# EAGLE library part NORDIC-BREAKOUT (library ble)
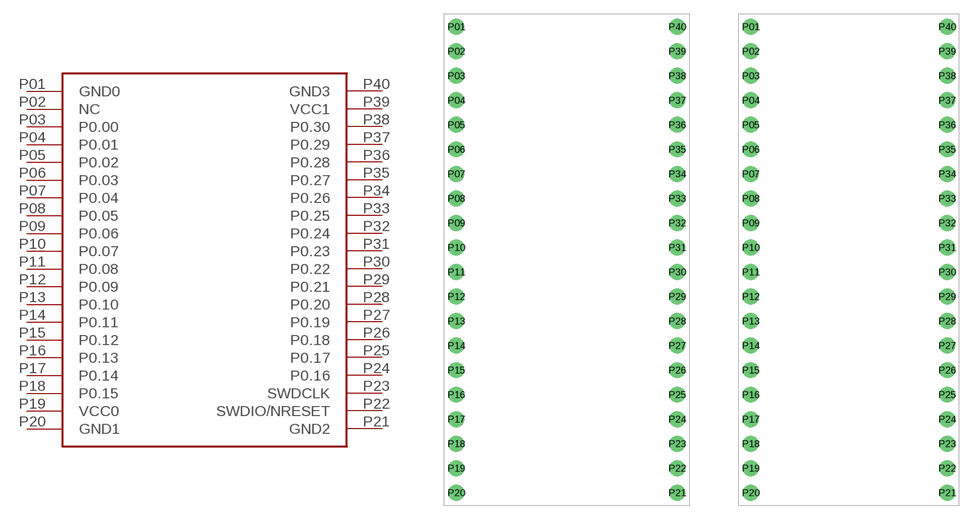
[diagram p1: symbol with the pads of NORDIC-BREAKOUT; footprints NORDIC-BREAKOUT, NORDIC-BREAKOUT2]

Designator prefix -

## NORDIC-BREAKOUT900MIL  [NORDIC-BREAKOUT]
P01  GND0  pwr
P02  NC  nc
P03  P0.00
P04  P0.01
P05  P0.02
P06  P0.03
P07  P0.04
P08  P0.05
P09  P0.06
P10  P0.07
P11  P0.08
P12  P0.09
P13  P0.10
P14  P0.11
P15  P0.12
P16  P0.13
P17  P0.14
P18  P0.15
P19  VCC0  pwr
P20  GND1  pwr
P21  GND2  pwr
P22  SWDIO/NRESET
P23  SWDCLK  in
P24  P0.16
P25  P0.17
P26  P0.18
P27  P0.19
P28  P0.20
P29  P0.21
P30  P0.22
P31  P0.23
P32  P0.24
P33  P0.25
P34  P0.26
P35  P0.27
P36  P0.28
P37  P0.29
P38  P0.30
P39  VCC1  pwr
P40  GND3  pwr

## NORDIC-BREAKOUT800MIL  [NORDIC-BREAKOUT2]
Pads as for NORDIC-BREAKOUT

## Footprint NORDIC-BREAKOUT (pad centres in mm)
drill 1.1: P01 -11.43,24.13; P02 -11.43,21.59; P03 -11.43,19.05; P04 -11.43,16.51; P05 -11.43,13.97; P06 -11.43,11.43; P07 -11.43,8.89; P08 -11.43,6.35; P09 -11.43,3.81; P10 -11.43,1.27; P11 -11.43,-1.27; P12 -11.43,-3.81; P13 -11.43,-6.35; P14 -11.43,-8.89; P15 -11.43,-11.43; P16 -11.43,-13.97; P17 -11.43,-16.51; P18 -11.43,-19.05; P19 -11.43,-21.59; P20 -11.43,-24.13; P21 11.43,-24.13; P22 11.43,-21.59; P23 11.43,-19.05; P24 11.43,-16.51; P25 11.43,-13.97; P26 11.43,-11.43; P27 11.43,-8.89; P28 11.43,-6.35; P29 11.43,-3.81; P30 11.43,-1.27; P31 11.43,1.27; P32 11.43,3.81; P33 11.43,6.35; P34 11.43,8.89; P35 11.43,11.43; P36 11.43,13.97; P37 11.43,16.51; P38 11.43,19.05; P39 11.43,21.59; P40 11.43,24.13

## Footprint NORDIC-BREAKOUT2 (pad centres in mm)
drill 1.1: P01 -10.16,24.13; P02 -10.16,21.59; P03 -10.16,19.05; P04 -10.16,16.51; P05 -10.16,13.97; P06 -10.16,11.43; P07 -10.16,8.89; P08 -10.16,6.35; P09 -10.16,3.81; P10 -10.16,1.27; P11 -10.16,-1.27; P12 -10.16,-3.81; P13 -10.16,-6.35; P14 -10.16,-8.89; P15 -10.16,-11.43; P16 -10.16,-13.97; P17 -10.16,-16.51; P18 -10.16,-19.05; P19 -10.16,-21.59; P20 -10.16,-24.13; P21 10.16,-24.13; P22 10.16,-21.59; P23 10.16,-19.05; P24 10.16,-16.51; P25 10.16,-13.97; P26 10.16,-11.43; P27 10.16,-8.89; P28 10.16,-6.35; P29 10.16,-3.81; P30 10.16,-1.27; P31 10.16,1.27; P32 10.16,3.81; P33 10.16,6.35; P34 10.16,8.89; P35 10.16,11.43; P36 10.16,13.97; P37 10.16,16.51; P38 10.16,19.05; P39 10.16,21.59; P40 10.16,24.13